# Altium footprint library EEGV4.0.PcbLib: 20 footprints (part 1 of 2)
Each footprint in its own frame and in the unit in brackets; x right, y up, seen from the top. Pads: shape width x height; smd on the part's side, far side on the other; paste and mask are expansions set on the pad; w line width, h text height; cw(c..) or ccw(c..) is an arc to the next point about the centre after c.
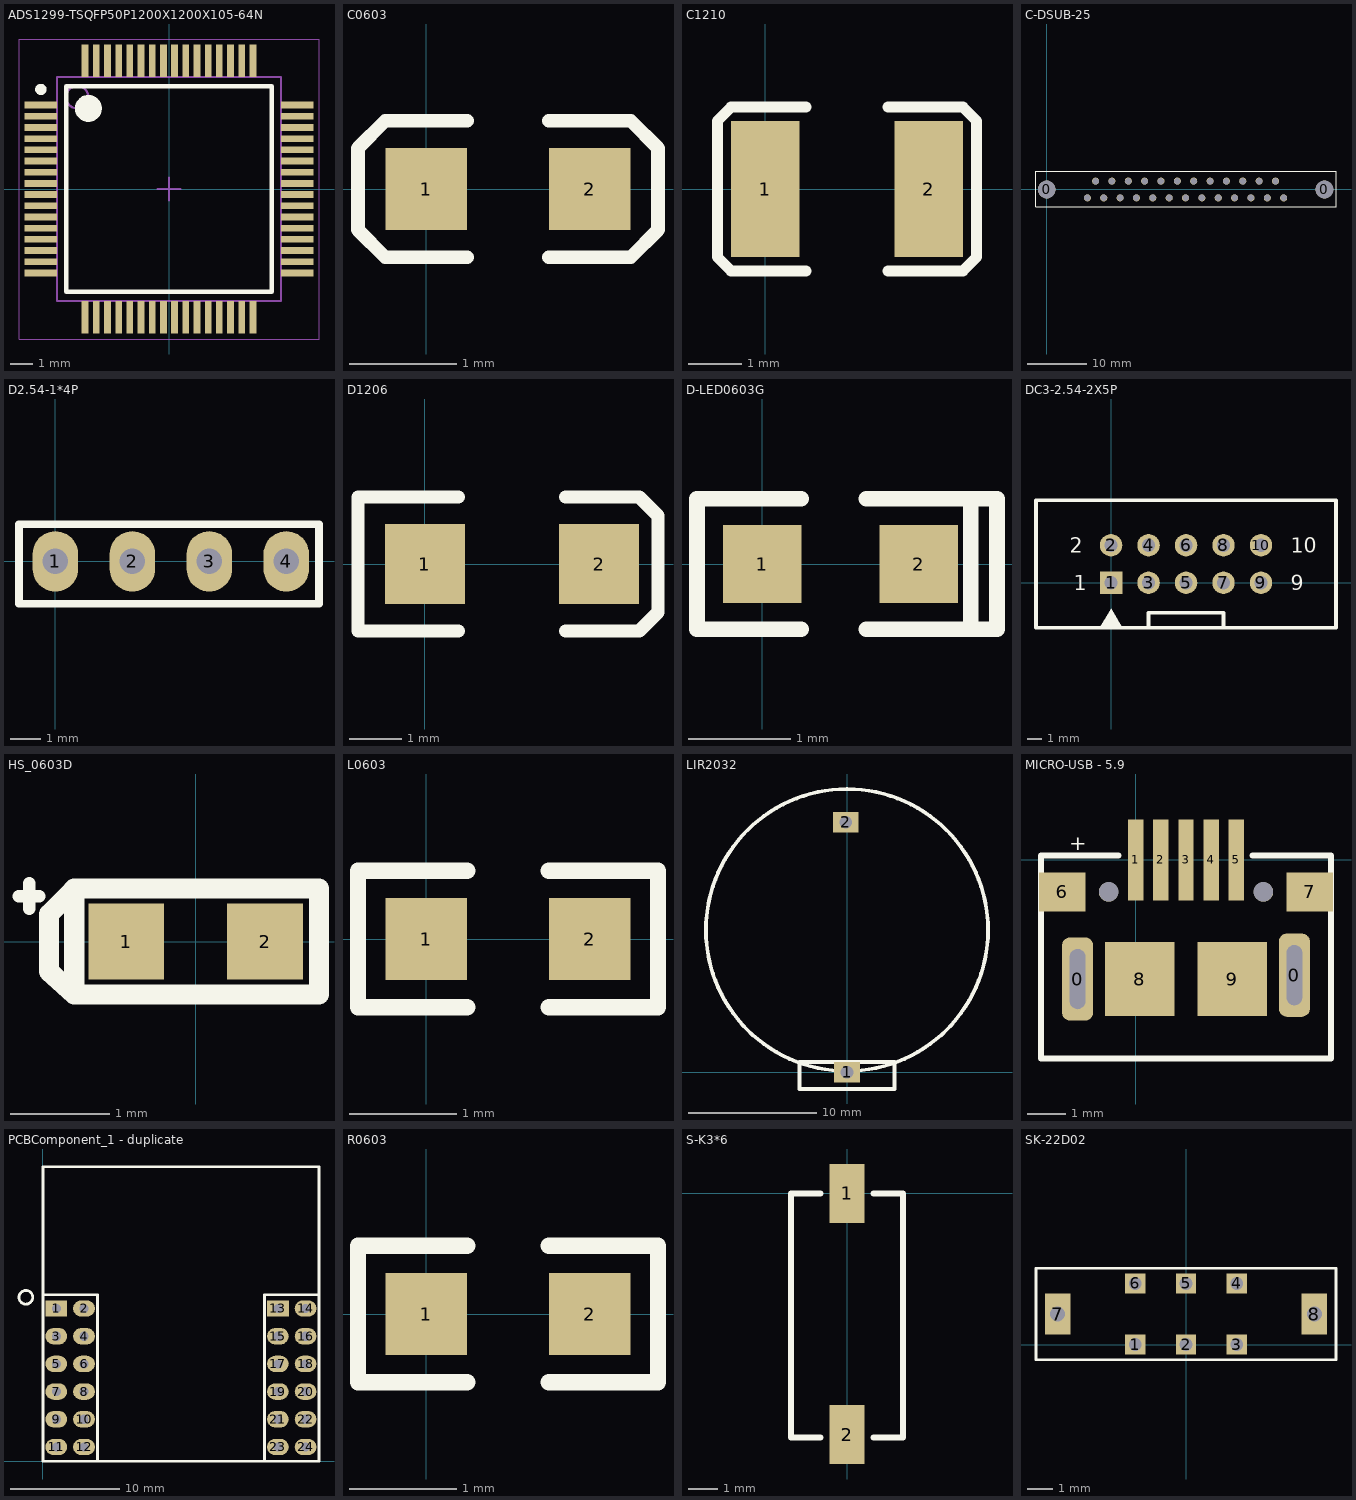
[diagram p0: the footprints below, top view; thin cyan lines are the x and y axes]

## ADS1299-TSQFP50P1200X1200X105-64N [mm] "TSQFP, 64-Leads, Body 10.00x10.00mm, Pitch 0.50mm, IPC Medium Density"
height 1.05
pads (64):
  rect 1.45x0.3 smd: 1(-5.725,3.75) 2(-5.725,3.25) 3(-5.725,2.75) 4(-5.725,2.25) 5(-5.725,1.75) 6(-5.725,1.25) 7(-5.725,0.75) 8(-5.725,0.25) 9(-5.725,-0.25) 10(-5.725,-0.75) 11(-5.725,-1.25) 12(-5.725,-1.75) 13(-5.725,-2.25) 14(-5.725,-2.75) 15(-5.725,-3.25) 16(-5.725,-3.75) 33(5.725,-3.75) 34(5.725,-3.25) 35(5.725,-2.75) 36(5.725,-2.25) 37(5.725,-1.75) 38(5.725,-1.25) 39(5.725,-0.75) 40(5.725,-0.25) 41(5.725,0.25) 42(5.725,0.75) 43(5.725,1.25) 44(5.725,1.75) 45(5.725,2.25) 46(5.725,2.75) 47(5.725,3.25) 48(5.725,3.75)
  rect 0.3x1.45 smd: 17(-3.75,-5.725) 18(-3.25,-5.725) 19(-2.75,-5.725) 20(-2.25,-5.725) 21(-1.75,-5.725) 22(-1.25,-5.725) 23(-0.75,-5.725) 24(-0.25,-5.725) 25(0.25,-5.725) 26(0.75,-5.725) 27(1.25,-5.725) 28(1.75,-5.725) 29(2.25,-5.725) 30(2.75,-5.725) 31(3.25,-5.725) 32(3.75,-5.725) 49(3.75,5.725) 50(3.25,5.725) 51(2.75,5.725) 52(2.25,5.725) 53(1.75,5.725) 54(1.25,5.725) 55(0.75,5.725) 56(0.25,5.725) 57(-0.25,5.725) 58(-0.75,5.725) 59(-1.25,5.725) 60(-1.75,5.725) 61(-2.25,5.725) 62(-2.75,5.725) 63(-3.25,5.725) 64(-3.75,5.725)
Top Overlay:
  circle w0.25: c-5.725,4.45 r0.125
  circle w0.6: c-3.6,3.6 r0.3
  lines w0.2: -4.6,-4.6 -4.6,4.6 4.6,4.6 4.6,-4.6 -4.6,-4.6
Mechanical 13:
  circle w0.1: c-4.1,4.1 r0.5
  lines w0.1: -5,-5 -5,5 5,5 5,-5 -5,-5
Mechanical 15:
  lines w0.05: -6.7,-6.7 -6.7,6.7 6.7,6.7 6.7,-6.7 -6.7,-6.7
  lines w0.1: -0.5,0 0.5,0 ; 0,-0.5 0,0.5
3D body: height 1.05, standoff 0.25, extent -5,-5 5,5

## C0603 [mil]
height 12
pads (2):
  rect 30x30 smd: 1(0,0) 2(60,0)
Top Overlay:
  lines w5: 15,-25 -15,-25 -25,-15 -25,15 -15,25 15,25 ; 45,-25 75,-25 85,-15 85,15 75,25 45,25
3D body "C0603.STEP": height 11.89, standoff 0, extent -1.5,-15.5 61.5,16

## C1210 [mil]
height 20
pads (2):
  rect 50x100 smd: 1(0,0) 2(120,0)
Top Overlay:
  lines w8: 30,-60 -25,-60 -35,-50 -35,50 -25,60 30,60 ; 90,-60 145,-60 155,-50 155,50 145,60 90,60
3D body "C1210.STEP": height 98.43, standoff 0, extent -2.99,-48.43 122.99,50

## C-DSUB-25 [mm] "C-DSUB-25"
pads (27):
  round 3 hole 3: 0(0,0) 0(47.04,0)
  round 1.2 hole 1.1: 1(6.9,-1.42) 2(9.67,-1.42) 3(12.44,-1.42) 4(15.21,-1.42) 5(17.98,-1.42) 6(20.75,-1.42) 7(23.52,-1.42) 8(26.29,-1.42) 9(29.06,-1.42) 10(31.83,-1.42) 11(34.6,-1.42) 12(37.37,-1.42) 13(40.14,-1.42) 14(8.285,1.42) 15(11.055,1.42) 16(13.825,1.42) 17(16.595,1.42) 18(19.365,1.42) 19(22.135,1.42) 20(24.905,1.42) 21(27.675,1.42) 22(30.445,1.42) 23(33.215,1.42) 24(35.985,1.42) 25(38.755,1.42)
Top Overlay:
  lines w0.2: -1.8,-2.92 49,-2.92 49,3.08 -1.8,3.08 -1.8,-2.92

## D2.54-1*4P [mm] "Bluetooth"
pads (4):
  oval 1.5x2 hole 0.838: 1(0,0) 2(2.54,0) 3(5.08,0) 4(7.62,0)
Top Overlay:
  lines w0.254: -1.2,-1.4 -1.2,1.23 8.7,1.23 8.7,-1.4 -1.2,-1.4
3D body: height 2.54, standoff 0, extent -1.1,-1.4 8.7,1.23
3D body: height 10, standoff -4, extent 7.222,-0.399 8.019,0.399
3D body: height 10, standoff -4, extent 4.682,-0.399 5.479,0.399
3D body: height 10, standoff -4, extent 2.142,-0.399 2.939,0.399
3D body: height 10, standoff -4, extent -0.398,-0.399 0.399,0.399

## D1206 [mil]
height 12
pads (2):
  rect 60x60 smd: 1(0,0) 2(130,0)
Top Overlay:
  lines w10: 25,-50 -50,-50 -50,50 25,50 ; 105,-50 145,-50 160,-50 174.02,-35.98 174.02,35.98 160,50 105,50
3D body: height 3.94, standoff 0, extent 117.5,-23 150.5,23
3D body: height 3.94, standoff 0, extent -22,-23 11,23
3D body: height 47.24, standoff 3.94, extent -7,-40 105,40
3D body: height 47.24, standoff 3.94, extent 105,-40 123,40
3D body: height 47.24, standoff 3.94, extent 123,-40 134,40

## D-LED0603G [mil]
height 39.37
pads (2):
  rect 30x30 smd: 1(0,0) 2(60,0)
Top Overlay:
  lines w6: 15,-25 -25,-25 -25,25 15,25 ; 40,-25 90,-25 90,25 40,25 ; 80,-25 80,25
3D body "LED_0603_GREEN.STEP": height 23.62, standoff 0, extent -1.89,-16.5 61.89,15

## DC3-2.54-2X5P [mil] "DC3-2.54-2x5P直脚"
pads (10):
  rect 60x60 hole 35: 1(0,0)
  round 60 hole 35: 2(0,100) 3(100,0) 4(100,100) 5(200,0) 6(200,100) 7(300,0) 8(300,100) 9(400,0) 10(400,100)
Top Overlay:
  region: -30,-120 30,-120 0,-70
  lines w10: 100,-120 100,-80 300,-80 300,-120 ; -200,-120 600,-120 600,220 -200,220 -200,-120
  text "10" at 480,80 h40
  text "1" at -100,-20 h40
  text "9" at 480,-20 h40
  text "2" at -110,80 h40

## HS_0603D [mil]
height 100
pads (2):
  rect 30x30 smd: 1(-27.5,0) 2(27.5,0)
Top Overlay:
  lines w5: -70,18 -62,18 ; -66,13 -66,23
  lines w8: -49,20 -58.12,10.88 -58.12,-11.87 -48.12,-21 ; -48.12,20 -48.12,-21 ; -48.12,21 48.88,21 48.88,-21 -48.12,-21

## L0603 [mil]
pads (2):
  rect 30x30 smd: 1(0,0) 2(60,0)
Top Overlay:
  lines w6: 15,-25 -25,-25 -25,25 15,25 ; 45,-25 85,-25 85,25 45,25
3D body "EMIFIL_0603.STEP": height 23.77, standoff 0, extent -1.5,-15 61.5,17.22

## LIR2032 [mm] "LIR2032 -- 2 Pin"
height 0.305
pads (2):
  rect 2x1.6 hole 1: 1(0,0) 2(-0.1,19.5)
Top Overlay:
  circle w0.3: c0,11.1 r11
  lines w0.3: -3.7,-1.3 3.7,-1.3 3.7,0.8 -3.7,0.8 -3.7,-1.3

## MICRO-USB - 5.9 [mm]
height 0.305
pads (13):
  rrect50% 0.8x2.15 hole 0.4 slot 1.55 at 90 deg: 0(-1.5,-3.075) 0(4.1,-2.975)
  rect 0.4x2.1 smd: 1(0,0) 2(0.65,0) 3(1.3,0) 4(1.95,0) 5(2.6,0)
  rect 1.2x1 smd: 6(-1.9,-0.825) 7(4.5,-0.825)
  rect 1.8x1.9 smd: 8(0.106,-3.075) 9(2.493,-3.075)
  round 0.5 hole 0.5 unplated: ""(-0.7,-0.825) ""(3.3,-0.825)
Top Overlay:
  lines w0.152: -0.443,0.118 -2.45,0.118 -2.45,-5.132 5.05,-5.132 5.05,0.118 3.019,0.118
  text "+" at -1.713,0.252 h0.4

## PCBComponent_1 - duplicate [mm]
pads (24):
  rect 2x1.5 hole 0.838: 1(1.23,14) 13(21.55,14)
  oval 2x1.5 hole 0.838: 2(3.77,14) 3(1.23,11.46) 4(3.77,11.46) 5(1.23,8.92) 6(3.77,8.92) 7(1.23,6.38) 8(3.77,6.38) 9(1.23,3.84) 10(3.77,3.84) 11(1.23,1.3) 12(3.77,1.3) 14(24.09,14) 15(21.55,11.46) 16(24.09,11.46) 17(21.55,8.92) 18(24.09,8.92) 19(21.55,6.38) 20(24.09,6.38) 21(21.55,3.84) 22(24.09,3.84) 23(21.55,1.3) 24(24.09,1.3)
Top Overlay:
  lines w0.254: -0.939,14.978 cw(c-1.565,15.025) -0.937,15.047 ; 25.32,26.986 25.32,0 ; 25.32,26.99 0,26.99 0,0 ; 0,0 0,15.27 5,15.27 5,0 ; 0,0 5,0 ; 5,0 20.32,0 ; 20.32,0 25.32,0 ; 20.32,0 20.32,15.27 25.32,15.27 25.32,0
3D body: height 2.54, standoff 0, extent 0,0 5.08,15.27
3D body: height 10, standoff -4, extent 3.371,5.981 4.169,6.778
3D body: height 10, standoff -4, extent 3.371,8.521 4.169,9.318
3D body: height 10, standoff -4, extent 3.371,11.061 4.169,11.858
3D body: height 10, standoff -4, extent 3.371,13.601 4.169,14.398
3D body: height 10, standoff -4, extent 0.831,5.981 1.629,6.778
3D body: height 10, standoff -4, extent 0.831,8.521 1.629,9.318
3D body: height 10, standoff -4, extent 0.831,11.061 1.629,11.858
3D body: height 10, standoff -4, extent 0.831,13.601 1.629,14.398
3D body: height 10, standoff -4, extent 3.371,3.441 4.169,4.238
3D body: height 10, standoff -4, extent 0.831,3.441 1.629,4.238
3D body: height 10, standoff -4, extent 0.831,0.841 1.629,1.638
3D body: height 10, standoff -4, extent 3.371,0.841 4.169,1.638
3D body: height 10, standoff -4, extent 23.691,0.841 24.489,1.638
3D body: height 10, standoff -4, extent 21.151,0.841 21.949,1.638
3D body: height 10, standoff -4, extent 21.151,3.441 21.949,4.238
3D body: height 10, standoff -4, extent 23.691,3.441 24.489,4.238
3D body: height 10, standoff -4, extent 21.151,13.601 21.949,14.398
3D body: height 10, standoff -4, extent 21.151,11.061 21.949,11.858
3D body: height 10, standoff -4, extent 21.151,8.521 21.949,9.318
3D body: height 10, standoff -4, extent 21.151,5.981 21.949,6.778
3D body: height 10, standoff -4, extent 23.691,13.601 24.489,14.398
3D body: height 10, standoff -4, extent 23.691,11.061 24.489,11.858
3D body: height 10, standoff -4, extent 23.691,8.521 24.489,9.318
3D body: height 10, standoff -4, extent 23.691,5.981 24.489,6.778
3D body: height 2.54, standoff 0, extent 20.32,0 25.4,15.27

## R0603 [mil]
height 12
pads (2):
  rect 30x30 smd: 1(0,0) 2(60,0)
Top Overlay:
  lines w6: 15,-25 -25,-25 -25,25 15,25 ; 45,-25 85,-25 85,25 45,25
3D body "R0603.STEP": height 17.72, standoff 0, extent -0.5,-16 62.5,15.5

## S-K3*6 [mm]
height 0.305
pads (2):
  rect 1.2x2 smd: 1(0,0) 2(0,-8.2)
Top Overlay:
  lines w0.2: -0.9,-8.3 -1.9,-8.3 -1.9,0 -0.9,0 ; 0.9,-8.3 1.9,-8.3 1.9,0 0.9,0

## SK-22D02 [mm] "2档6脚"
height 0.305
pads (8):
  rect 0.8x0.8 hole 0.5: 1(-2,0) 2(0,0) 3(2,0) 4(2,2.4) 5(0,2.4) 6(-2,2.4)
  rect 1x1.6 hole 0.6 square: 7(-5.05,1.2) 8(5.05,1.2)
Top Overlay:
  lines w0.1: -5.9,-0.6 -5.9,3 5.9,3 5.9,-0.6 -5.9,-0.6